# Altium footprint library vqfn_hr_12.PcbLib: 1 footprints
Each footprint in its own frame and in the unit in brackets; x right, y up, seen from the top. Pads: shape width x height; smd on the part's side, far side on the other; paste and mask are expansions set on the pad; w line width, h text height; cw(c..) or ccw(c..) is an arc to the next point about the centre after c.
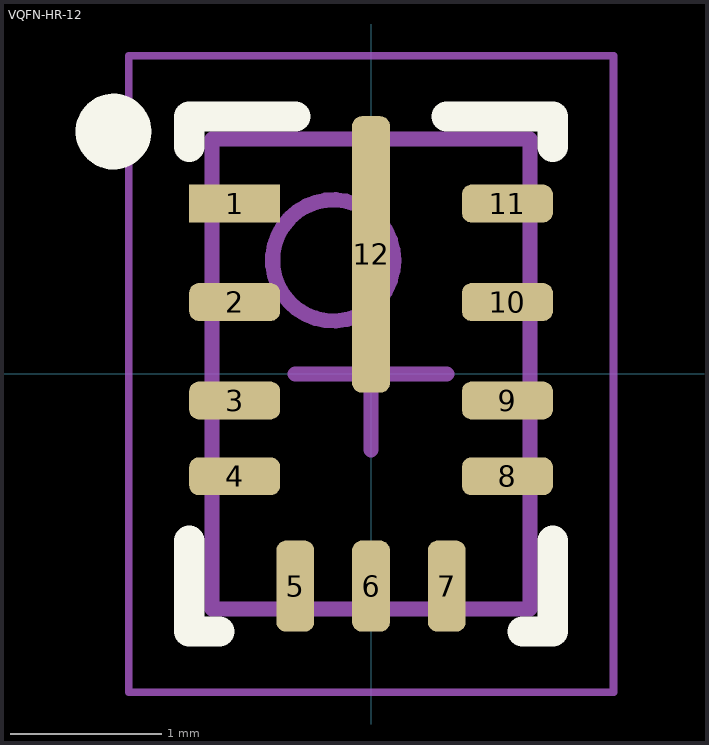
[diagram p0: the footprint, top view; thin cyan lines are the x and y axes]

## VQFN-HR-12 [mm]
height 1
pads (12):
  rect 0.6x0.25 smd: 1(-0.9,1.125)
  rrect50% 0.6x0.25 smd: 2(-0.9,0.475) 3(-0.9,-0.175) 4(-0.9,-0.675) 8(0.9,-0.675) 9(0.9,-0.175) 10(0.9,0.475) 11(0.9,1.125)
  rrect50% 0.25x0.6 smd: 5(-0.5,-1.4) 6(0,-1.4) 7(0.5,-1.4)
  rrect50% 0.25x1.825 smd: 12(0,0.789)
Top Overlay:
  circle w0.25: c-1.7,1.6 r0.125
  lines w0.2: -1.2,-1.1 -1.2,-1.7 -1,-1.7 ; -1.2,1.5 -1.2,1.7 -0.5,1.7 ; 0.5,1.7 1.2,1.7 1.2,1.5 ; 1,-1.7 1.2,-1.7 1.2,-1.1
Top Comment:
  text ".Comment" at 1,2.3 h1.2
Top Designator:
  text ".Designator" at -0.3,2.3 h1.2
Top Component Outline:
  circle w0.1: c-0.25,0.75 r0.4
  lines w0.1: -1.05,-1.55 1.05,-1.55 1.05,1.55 -1.05,1.55 -1.05,-1.55
Top Courtyard (Mech15):
  lines w0.05: -1.6,-2.1 1.6,-2.1 1.6,2.1 -1.6,2.1 -1.6,-2.1
  lines w0.1: -0.5,0 0.5,0 ; 0,-0.5 0,0.5
3D body "VQFN-HR-12.STEP": height 1, standoff 0, extent -1,-1.5 1,1.5